# Altium integrated library 3.3k Res R22.IntLib: 1 symbol
Pins are listed as number, name and electrical type; pins without a type are passive.

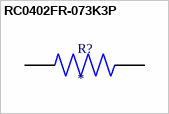
[diagram p0: symbol RC0402FR-073K3P]

## RC0402FR-073K3P
designator R?
Chip Resistor Surface Mount; MP: RC0402FR-073K3P; Package: None; Price: None; Value: *; Availability: Unavailable
footprint RESC1005X40N
pins: 1, 2